# Altium footprint library SnapEDApcb.PcbLib: 3 footprints
Each footprint in its own frame and in the unit in brackets; x right, y up, seen from the top. Pads: shape width x height; smd on the part's side, far side on the other; paste and mask are expansions set on the pad; w line width, h text height; cw(c..) or ccw(c..) is an arc to the next point about the centre after c.
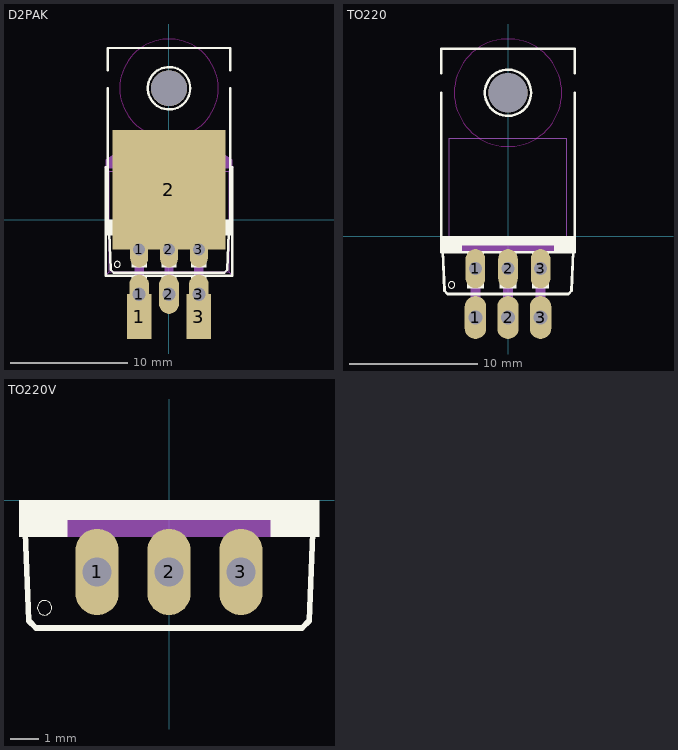
[diagram p0: the footprints below, top view; thin cyan lines are the x and y axes]

## D2PAK [mil]
pads (10):
  rect 81.89x150 smd: 1(-100,-325) 3(100,-325)
  oval 66x132 hole 44: 1(-100,-250) 2(0,-250) 3(100,-250)
  oval 60x120 hole 40: 1(-100,-100) 2(0,-100) 3(100,-100)
  rect 380x400 smd: 2(0,100)
  round 120 hole 120 unplated: ""(0,440)
Top Overlay:
  circle w0: c-173.06,-149.94 r10
  circle w8: c0,440 r71
  region: 208.66,-27.56 -208.66,-27.56 -208.66,0 208.66,0
  region: -141.73,-51.18 -208.66,-51.18 -208.66,-27.56 -141.73,-27.56
  region: 208.66,-51.18 141.73,-51.18 141.73,-27.56 208.66,-27.56
  region: -75,-160 -125,-160 -125,-50 -75,-50
  region: 25,-160 -25,-160 -25,-50 25,-50
  region: 125,-160 75,-160 75,-50 125,-50
  region: -75,-225 -125,-225 -125,-187.5 -75,-187.5
  region: 125,-225 75,-225 75,-187.5 125,-187.5
  region: 25,-225 -25,-225 -25,-187.5 25,-187.5
  lines w8: -212.5,175 -212.5,-187.5 212.5,-187.5 212.5,175 ; -205,440 -205,-50 205,-50 205,440 ; -205,500 -205,575 205,575 205,500 ; -200,-45 -195,-167.87 -185,-177.87 185,-177.87 195,-167.87 200,-45
Keep-Out Layer:
  circle w0: c0,440 r165
  circle w0: c0,440 r165
Mechanical 13:
  region: 141.73,-51.18 -141.73,-51.18 -141.73,-27.56 141.73,-27.56
  region: 115,-185 85,-185 85,-160 115,-160
  region: 15,-185 -15,-185 -15,-160 15,-160
  region: -85,-185 -115,-185 -115,-160 -85,-160
  region: -85,-260 -115,-260 -115,-185 -85,-185
  region: 15,-260 -15,-260 -15,-185 15,-185
  region: 115,-260 85,-260 85,-185 115,-185
  region: -75,-300 -125,-300 -125,-225 -75,-225
  region: 125,-300 75,-300 75,-225 125,-225
  region: 212.5,200 212.5,175 -212.5,175 -212.5,200 -175,225 175,225
  lines w2: -212.5,-187.5 -200,-175 ; -212.5,175 -200,162.5 ; 212.5,-187.5 200,-175 ; 212.5,175 200,162.5 ; -200,-175 -200,162.5 ; -200,-175 200,-175 ; -200,162.5 200,162.5 ; 200,-175 200,162.5 ; -180,-25 180,-25 180,300 -180,300 -180,-25
  lines w8: -212.5,175 212.5,175
  text "1" at -125,-125 h50
  text "2" at -25,-125 h50
  text "3" at 75,-125 h50
  text "1" at -125,0 h50
  text "2" at -25,0 h50
  text "3" at 75,0 h50
  text "1" at -112.5,-150 h40
  text "3" at 87.5,-150 h40
  text "2" at -12.5,87.5 h40

## TO220 [mil]
pads (7):
  oval 66x132 hole 44: 1(-100,-250) 2(0,-250) 3(100,-250)
  oval 60x120 hole 40: 1(-100,-100) 2(0,-100) 3(100,-100)
  round 120 hole 120 unplated: ""(0,440)
Top Overlay:
  circle w8: c0,440 r71
  circle w0: c-173.06,-149.94 r10
  region: 125,-160 75,-160 75,-50 125,-50
  region: 25,-160 -25,-160 -25,-50 25,-50
  region: -75,-160 -125,-160 -125,-50 -75,-50
  region: 208.66,-51.18 141.73,-51.18 141.73,-27.56 208.66,-27.56
  region: -141.73,-51.18 -208.66,-51.18 -208.66,-27.56 -141.73,-27.56
  region: 208.66,-27.56 -208.66,-27.56 -208.66,0 208.66,0
  lines w8: -205,440 -205,-50 205,-50 205,440 ; -205,500 -205,575 205,575 205,500 ; -200,-45 -195,-167.87 -185,-177.87 185,-177.87 195,-167.87 200,-45
Keep-Out Layer:
  circle w0: c0,440 r165
  circle w0: c0,440 r165
Mechanical 13:
  region: 115,-260 85,-260 85,-185 115,-185
  region: 15,-260 -15,-260 -15,-185 15,-185
  region: -85,-260 -115,-260 -115,-185 -85,-185
  region: -85,-185 -115,-185 -115,-160 -85,-160
  region: 15,-185 -15,-185 -15,-160 15,-160
  region: 115,-185 85,-185 85,-160 115,-160
  region: 141.73,-51.18 -141.73,-51.18 -141.73,-27.56 141.73,-27.56
  lines w2: -180,-25 -180,300 180,300 180,-25 -180,-25
  text "3" at 75,0 h50
  text "2" at -25,0 h50
  text "1" at -125,0 h50
  text "3" at 75,-125 h50
  text "2" at -25,-125 h50
  text "1" at -125,-125 h50

## TO220V [mil]
pads (3):
  oval 60x120 hole 40: 1(-100,-100) 2(0,-100) 3(100,-100)
Top Overlay:
  circle w0: c-173.06,-149.94 r10
  region: 208.66,-51.18 141.73,-51.18 141.73,-27.56 208.66,-27.56
  region: -141.73,-51.18 -208.66,-51.18 -208.66,-27.56 -141.73,-27.56
  region: 208.66,-27.56 -208.66,-27.56 -208.66,0 208.66,0
  lines w8: -200,-45 -195,-167.87 -185,-177.87 185,-177.87 195,-167.87 200,-45
Mechanical 13:
  region: 141.73,-51.18 -141.73,-51.18 -141.73,-27.56 141.73,-27.56
  text "3" at 75,-125 h50
  text "2" at -25,-125 h50
  text "1" at -125,-125 h50